# EAGLE library part RES-ARRAY-4 (library Resistors)
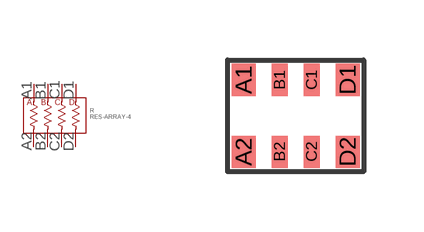
[diagram p0: symbol with the pads of MNR14; footprint MNR14]

Designator prefix R

## RES-ARRAY-4_1206_MNR14  [MNR14]
A1  A1  pas
A2  A2  pas
B1  B1  pas
B2  B2  pas
C1  C1  pas
C2  C2  pas
D1  D1  pas
D2  D2  pas

## Footprint MNR14 (pad centres in mm)
smd 0.6 x 0.8: A1 -1.3,0.9; A2 -1.3,-0.9; D1 1.3,0.9; D2 1.3,-0.9
smd 0.4 x 0.8: B1 -0.4,0.9; B2 -0.4,-0.9; C1 0.4,0.9; C2 0.4,-0.9